# Altium footprint library 3dparts.PcbLib: 20 footprints (part 2 of 2)
Each footprint in its own frame and in the unit in brackets; x right, y up, seen from the top. Pads: shape width x height; smd on the part's side, far side on the other; paste and mask are expansions set on the pad; w line width, h text height; cw(c..) or ccw(c..) is an arc to the next point about the centre after c.
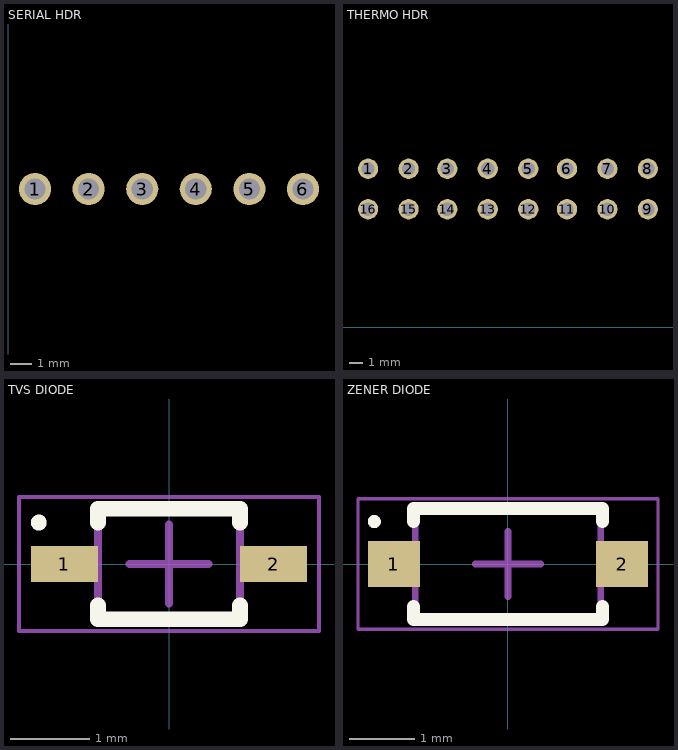
[diagram p1: the footprints below, top view; thin cyan lines are the x and y axes]

## SERIAL HDR [mil]
pads (6):
  round 60 hole 39.37: 1(50,565) 2(150,565) 3(250,565) 4(350,565) 5(450,565) 6(550,565)
3D body "022124062.stp": height 231.11, standoff -148.5, extent 0,0 600,580.22

## THERMO HDR [mil]
pads (16):
  round 60 hole 39.37: 1(140,470) 2(260,470) 3(375,470) 4(495,470) 5(615,470) 6(730,470) 7(850,470) 8(970,470) 9(970,350) 10(850,350) 11(730,350) 12(615,350) 13(495,350) 14(375,350) 15(260,350) 16(140,350)
3D body "430451601.stp": height 347.83, standoff -122.64, extent 0,0 1108.27,481.89

## TVS DIODE [mm] "1727-4155-1-ND"
height 1.1
pads (2):
  rect 0.85x0.45 smd: 1(-1.325,0) 2(1.325,0)
Top Overlay:
  circle w0.1: c-1.65,0.525 r0.05
  lines w0.2: -0.9,-0.525 -0.9,-0.7 0.9,-0.7 0.9,-0.525 ; -0.9,0.525 -0.9,0.7 0.9,0.7 0.9,0.525
Mechanical 13:
  lines w0.1: -0.9,-0.675 -0.9,0.675 0.9,0.675 0.9,-0.675 -0.9,-0.675
Mechanical 15:
  lines w0.05: -1.9,-0.85 -1.9,0.85 1.9,0.85 1.9,-0.85 -1.9,-0.85
  lines w0.1: -0.5,0 0.5,0 ; 0,-0.5 0,0.5
3D body: height 1.1, standoff 0, extent -0.9,-0.675 0.9,0.675

## ZENER DIODE [mm] "DDZ6V2BDICT-ND"
height 1.35
pads (2):
  rect 0.8x0.7 smd: 1(-1.75,0) 2(1.75,0)
Top Overlay:
  circle w0.1: c-2.05,0.65 r0.05
  lines w0.2: -1.45,-0.65 -1.45,-0.85 1.45,-0.85 1.45,-0.65 ; -1.45,0.65 -1.45,0.85 1.45,0.85 1.45,0.65
Mechanical 13:
  lines w0.1: -1.425,-0.85 1.425,-0.85 1.425,0.85 -1.425,0.85 -1.425,-0.85
Mechanical 15:
  lines w0.05: -2.3,-1 2.3,-1 2.3,1 -2.3,1 -2.3,-1
  lines w0.1: -0.5,0 0.5,0 ; 0,-0.5 0,0.5
3D body: height 1.35, standoff 0, extent -1.425,-0.85 1.425,0.85